# Altium integrated library TSX-3225_32.0000MF10Z-W6.IntLib: 1 symbol
Pins are listed as number, name and electrical type; pins without a type are passive.

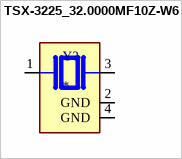
[diagram p0: symbol TSX-3225_32.0000MF10Z-W6]

## TSX-3225_32.0000MF10Z-W6
designator Y?
32 MHz Â±10ppm Crystal 12pF 40 Ohms 4-SMD, No Lead; MF: EPSON; MP: TSX-3225 32.0000MF10Z-W6; Purchase-URL: https://pricing.snapeda.com/search/part/TSX-3225 32.0000MF10Z-W6/?ref=eda; Price: None; Check_prices: https://www.snapeda.com/parts/TSX-3225%2032.0000MF10Z-W6/EPSON/view-part/?ref=eda; Package: SMD-4 EPSON; Availability: In Stock; SnapEDA_Link: https://www.snapeda.com/parts/TSX-3225%2032.0000MF10Z-W6/EPSON/view-part/?ref=snap; Value: *
footprint XTAL_TSX-3225_32.0000MF10Z-W6
pins: 1, 2 GND (power), 3 2, 4 GND (power)